# EAGLE library part CQY80N (library GClueSupply)
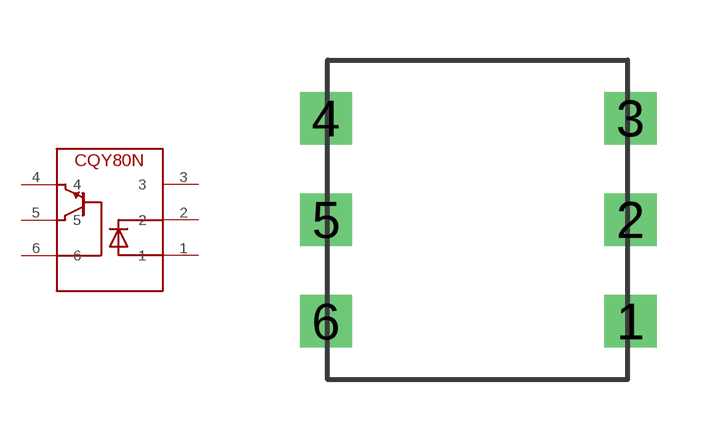
[diagram p2: symbol with the pads of CQY80N; footprint CQY80N]

Designator prefix -

## CQY80N  [CQY80N]
1  1
2  2
3  3
4  4
5  5
6  6

## Footprint CQY80N (pad centres in mm)
drill 0.8 square: 1 4.08,-2.54; 2 4.08,0; 3 4.08,2.54; 4 -3.54,2.54; 5 -3.54,0; 6 -3.54,-2.54